# EAGLE library part MCP25625 (library SWI_COMMONS)
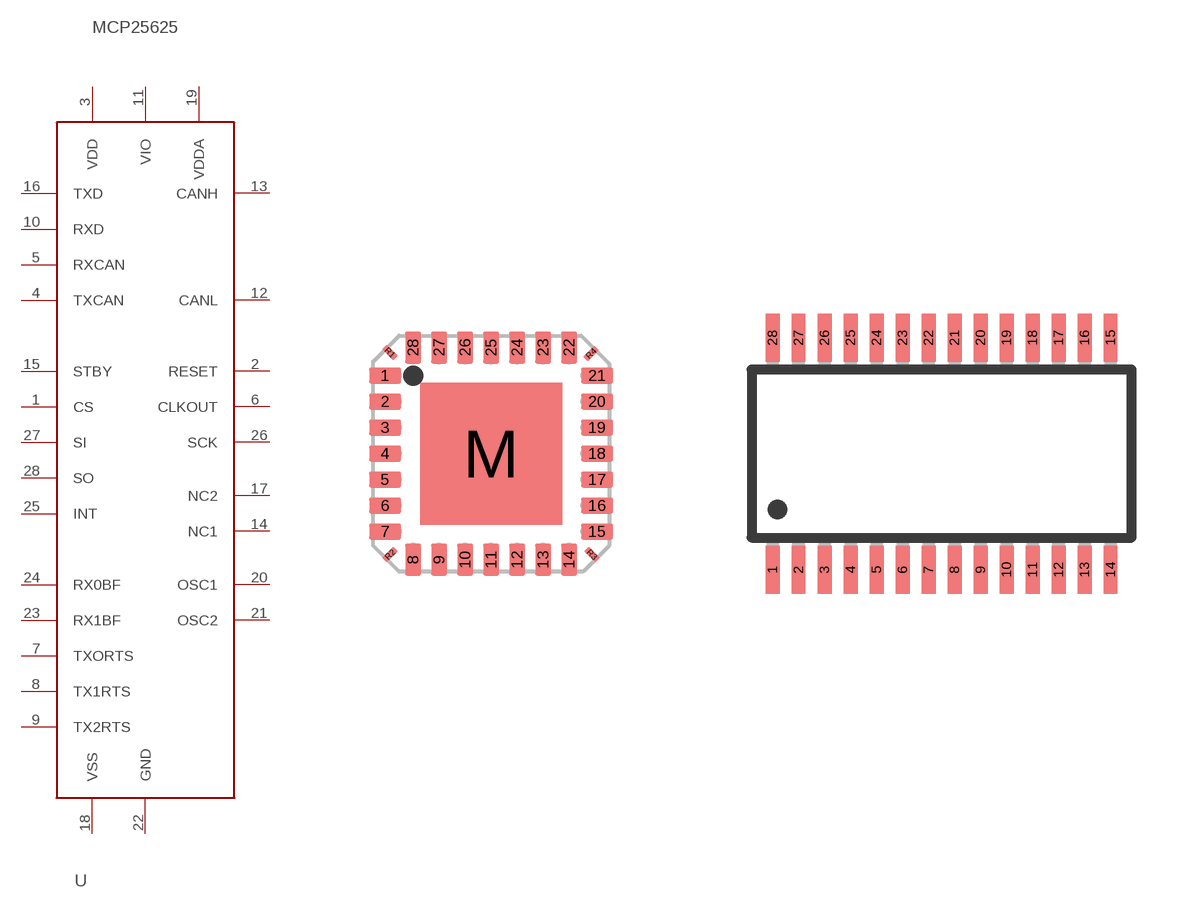
[diagram p0: symbol with the pads of QFN28; footprints QFN28, TSSOP-28]

Designator prefix -

## MCP25625  [QFN28]
1  CS
2  RESET
3  VDD  pwr
4  TXCAN
5  RXCAN
6  CLKOUT
7  TXORTS
8  TX1RTS
9  TX2RTS
10  RXD
11  VIO
12  CANL
13  CANH
14  NC1
15  STBY
16  TXD
17  NC2
18  VSS  pwr
19  VDDA  pwr
20  OSC1
21  OSC2
22  GND  pwr
23  RX1BF
24  RX0BF
25  INT
26  SCK
27  SI
28  SO

## MCP25625TSSOP  [TSSOP-28]
1  VIO
2  NC1
3  CANL
4  CANH
5  STBY
6  TX1RTS
7  TX2RTS
8  OSC2
9  OSC1
10  GND  pwr
11  RX1BF
12  RX0BF
13  INT
14  SCK
15  SI
16  SO
17  CS
18  RESET
19  VDD  pwr
20  TXCAN
21  RXCAN
22  CLKOUT
23  TXORTS
24  TXD
25  NC2
26  VSS  pwr
27  VDDA  pwr
28  RXD

## Footprint QFN28 (pad centres in mm)
28-Lead Plastic Quad Flat No Lead Package (ML) 6x6 mm Body, Punch Singulated (QFN) Source: ww1.microchip.com/downloads/en/DeviceDoc/39605c.pdf
smd 0.8 x 0.4: 1 -2.65,1.95; 2 -2.65,1.3; 3 -2.65,0.65; 4 -2.65,0; 5 -2.65,-0.65; 6 -2.65,-1.3; 7 -2.65,-1.95; 15 2.65,-1.95; 16 2.65,-1.3; 17 2.65,-0.65; 18 2.65,0; 19 2.65,0.65; 20 2.65,1.3; 21 2.65,1.95
smd 0.4 x 0.8: 8 -1.95,-2.65; 9 -1.3,-2.65; 10 -0.65,-2.65; 11 0,-2.65; 12 0.65,-2.65; 13 1.3,-2.65; 14 1.95,-2.65; 22 1.95,2.65; 23 1.3,2.65; 24 0.65,2.65; 25 0,2.65; 26 -0.65,2.65; 27 -1.3,2.65; 28 -1.95,2.65
smd 3.55 x 3.55: M 0,0
smd 0.17 x 0.4 rotated 45: R1 -2.525,2.525
smd 0.17 x 0.4 rotated 135: R2 -2.525,-2.525
smd 0.17 x 0.4 rotated 225: R3 2.525,-2.525
smd 0.17 x 0.4 rotated 315: R4 2.5,2.5

## Footprint TSSOP-28 (pad centres in mm)
28-Lead TSSOP Package RU-28
smd 0.35 x 1.2: 1 -4.225,-2.9; 2 -3.575,-2.9; 3 -2.925,-2.9; 4 -2.275,-2.9; 5 -1.625,-2.9; 6 -0.975,-2.9; 7 -0.325,-2.9; 8 0.325,-2.9; 9 0.975,-2.9; 10 1.625,-2.9; 11 2.275,-2.9; 12 2.925,-2.9; 13 3.575,-2.9; 14 4.225,-2.9; 15 4.225,2.9; 16 3.575,2.9; 17 2.925,2.9; 18 2.275,2.9; 19 1.625,2.9; 20 0.975,2.9; 21 0.325,2.9; 22 -0.325,2.9; 23 -0.975,2.9; 24 -1.625,2.9; 25 -2.275,2.9; 26 -2.925,2.9; 27 -3.575,2.9; 28 -4.225,2.9